# EAGLE library part SN65LVDS100D (library fcounter)
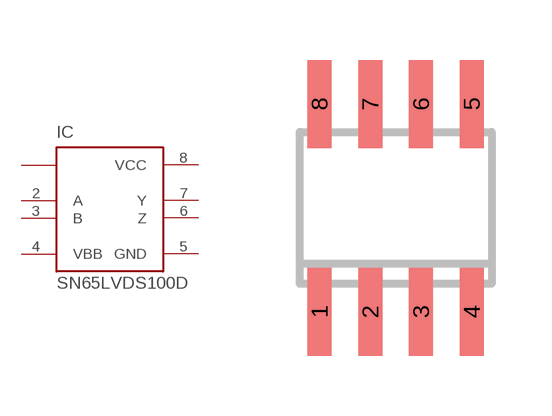
[diagram p2: symbol with the pads of SOP08; footprint SOP08]

Designator prefix IC

## SN65LVDS100D  [SOP08]
1  P$1  nc
2  A  in
3  B  in
4  VBB  pwr
5  GND  pwr
6  Z  out
7  Y  out
8  VCC  pwr

## Footprint SOP08 (pad centres in mm)
smd 0.6 x 2.2: 1 -1.905,-2.6; 2 -0.635,-2.6; 3 0.635,-2.6; 4 1.905,-2.6; 5 1.905,2.6; 6 0.635,2.6; 7 -0.635,2.6; 8 -1.905,2.6